# EAGLE library part AMPHENOL_10118194-0001LF (library Upverter Library)
CONN USB MICRO B RECPT SMT R/A
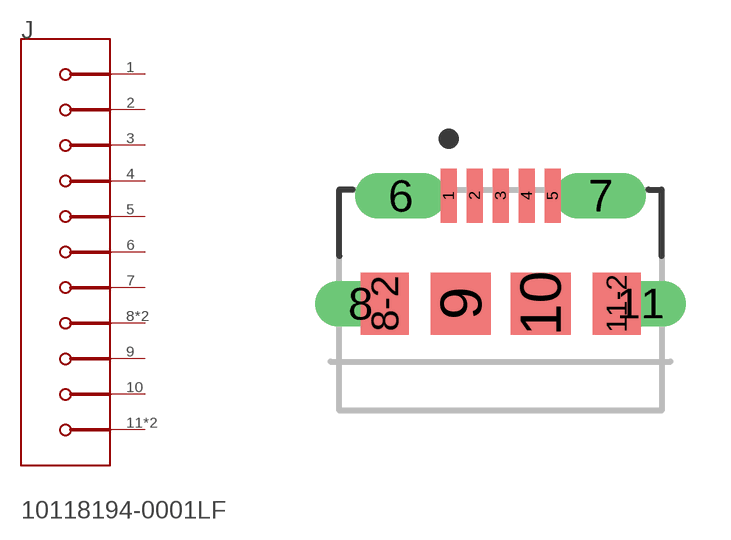
[diagram p0: symbol with the pads of AMPHENOL_10118194-0001LF_0; footprint AMPHENOL_10118194-0001LF_0]

Designator prefix J

## AMPHENOL_10118194-0001LFAMPHENOL_10118194-0001LF_0_0 (AC_Durability_(Mating_cycles): 10000 Mating Cycles; Current_Rating: 1.8A per contact; MF: Amphenol; MPN: 10118194-0001LF; Manufacturer_Product_Page: http://www.amphenol-icc.com/micro-usb-101181940001lf.html; Product_Specification: http://www.amphenol-icc.com/media/wysiwyg/files/documentation/gs-12-641.pdf; Resistance_(Contact)_Initial: 30 m-Ω max|After test delta: 10 m-Ω max change; Resistance_(Insulation)_Initial: 1000 M-Ω Min.|After test: 100 M-Ω Min.; Voltage_Rating: 100V; centroid_not_specified: No; datasheet: http://portal.fciconnect.com/Comergent//fci/drawing/10118194.pdf; digikey_description: CONN USB MICRO B RECPT SMT R/A; digikey_part_number: 609-4618-1-ND; imported_from: octopart; is_female: yes; lead_free: yes; mouser_part_number: 649-10118194-0001LF; package: CONN_USB; prefix: J; rohs: yes; temperature_range_high: +80°C; temperature_range_low: -30°C)  [AMPHENOL_10118194-0001LF_0]
1  1
2  2
3  3
4  4
5  5
6  MNT_1
7  MNT_2
8  MNT_3
8-2  MNT_3
9  MNT_4
10  MNT_5
11  MNT_6
11-2  MNT_6

## Footprint AMPHENOL_10118194-0001LF_0 (pad centres in mm)
CONN USB MICRO B RECPT SMT R/A
smd 0.4 x 1.35: 1 -1.3,2.615; 2 -0.65,2.615; 3 0,2.615; 4 0.65,2.615; 5 1.3,2.615
drill 0.635 pad 1.067 long: 6 -2.5,2.615; 7 2.5,2.615; 8 -3.5,-0.085; 11 3.5,-0.085
smd 1.2 x 1.55: 8-2 -2.9,-0.085; 11-2 2.9,-0.085
smd 1.5 x 1.55: 9 -1,-0.085; 10 1,-0.085